# EAGLE library part MAB16Q2 (library con-vg)
CONNECTOR male, 16 pins, type Q/2, rows AB, grid 2.54 mm / 5.08 mm
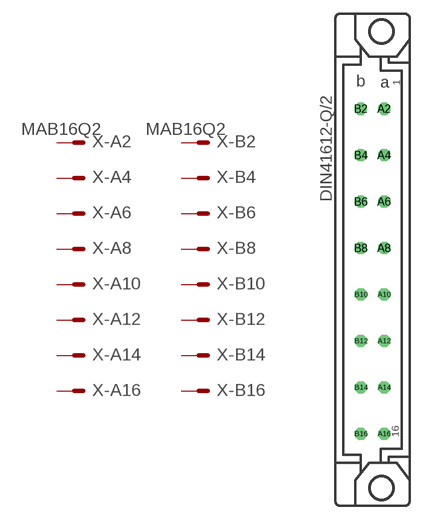
[diagram p94: symbol with the pads of MAB16Q2; footprint MAB16Q2]

Designator prefix X; gates -A2=MVAL -A4=MAL -A6=MAL -A8=MAL -A10=MAL -A12=MAL -A14=MAL -A16=MAL -B2=MVAL -B4=MAL -B6=MAL -B8=MAL -B10=MAL -B12=MAL -B14=MAL -B16=MAL

## MAB16Q2  [MAB16Q2]
A2  -A2:S  pas
A4  -A4:S  pas
A6  -A6:S  pas
A8  -A8:S  pas
A10  -A10:S  pas
A12  -A12:S  pas
A14  -A14:S  pas
A16  -A16:S  pas
B2  -B2:S  pas
B4  -B4:S  pas
B6  -B6:S  pas
B8  -B8:S  pas
B10  -B10:S  pas
B12  -B12:S  pas
B14  -B14:S  pas
B16  -B16:S  pas

## Footprint MAB16Q2 (pad centres in mm)
CONNECTOR male, 16 pins, type Q/2, rows AB, grid 2.54 mm / 5.08 mm
drill 0.813 octagon: A2 1.27,16.51; A4 1.27,11.43; A6 1.27,6.35; A8 1.27,1.27; A10 1.27,-3.81; A12 1.27,-8.89; A14 1.27,-13.97; A16 1.27,-19.05; B2 -1.27,16.51; B4 -1.27,11.43; B6 -1.27,6.35; B8 -1.27,1.27; B10 -1.27,-3.81; B12 -1.27,-8.89; B14 -1.27,-13.97; B16 -1.27,-19.05
hole 2.794 at 0.965,-25
hole 2.794 at 0.965,25